# EAGLE library part MICROCHIP_MTD6501C (library ICs)
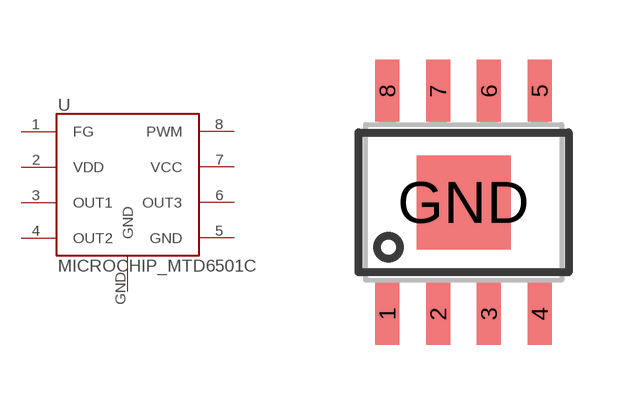
[diagram p0: symbol with the pads of SOP-8; footprint SOP-8]

Designator prefix U

## MICROCHIP_MTD6501C  [SOP-8]
1  FG  out
2  VDD  pwr
3  OUT1  out
4  OUT2  out
5  GND  pwr
6  OUT3  out
7  VCC  pwr
8  PWM  in
GND  GND  pwr

## Footprint SOP-8 (pad centres in mm)
SOP-8 package based on Microchip MTD6501C datasheet dimensions.
smd 0.6 x 1.55: 1 -1.905,-2.79; 2 -0.635,-2.79; 3 0.635,-2.79; 4 1.905,-2.79; 5 1.905,2.79; 6 0.635,2.79; 7 -0.635,2.79; 8 -1.905,2.79
smd 2.35 x 2.35: GND 0,0